# EAGLE library part MC74*50 (library IC)
Hex Non-Inverting Buffer
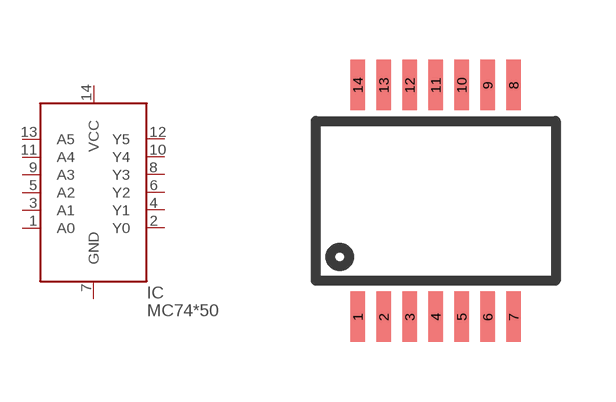
[diagram p175: symbol with the pads of TSSOP14_; footprint TSSOP14_]

Designator prefix IC

## MC74LVX50DT, MC74VHCT50DT  [TSSOP14_]
1  A0
2  Y0
3  A1
4  Y1
5  A2
6  Y2
7  GND  pwr
8  Y3
9  A3
10  Y4
11  A4
12  Y5
13  A5
14  VCC  pwr

## Footprint TSSOP14_ (pad centres in mm)
On Semiconductors Plastic TSSOP 24-lead package
smd 0.36 x 1.26: 1 -1.95,-2.9; 2 -1.3,-2.9; 3 -0.65,-2.9; 4 0,-2.9; 5 0.65,-2.9; 6 1.3,-2.9; 7 1.95,-2.9; 8 1.95,2.9; 9 1.3,2.9; 10 0.65,2.9; 11 0,2.9; 12 -0.65,2.9; 13 -1.3,2.9; 14 -1.95,2.9